# Altium schematic symbol library MainLibrary.SchLib: 86 symbols
Pins are listed as number, name and electrical type; pins without a type are passive.

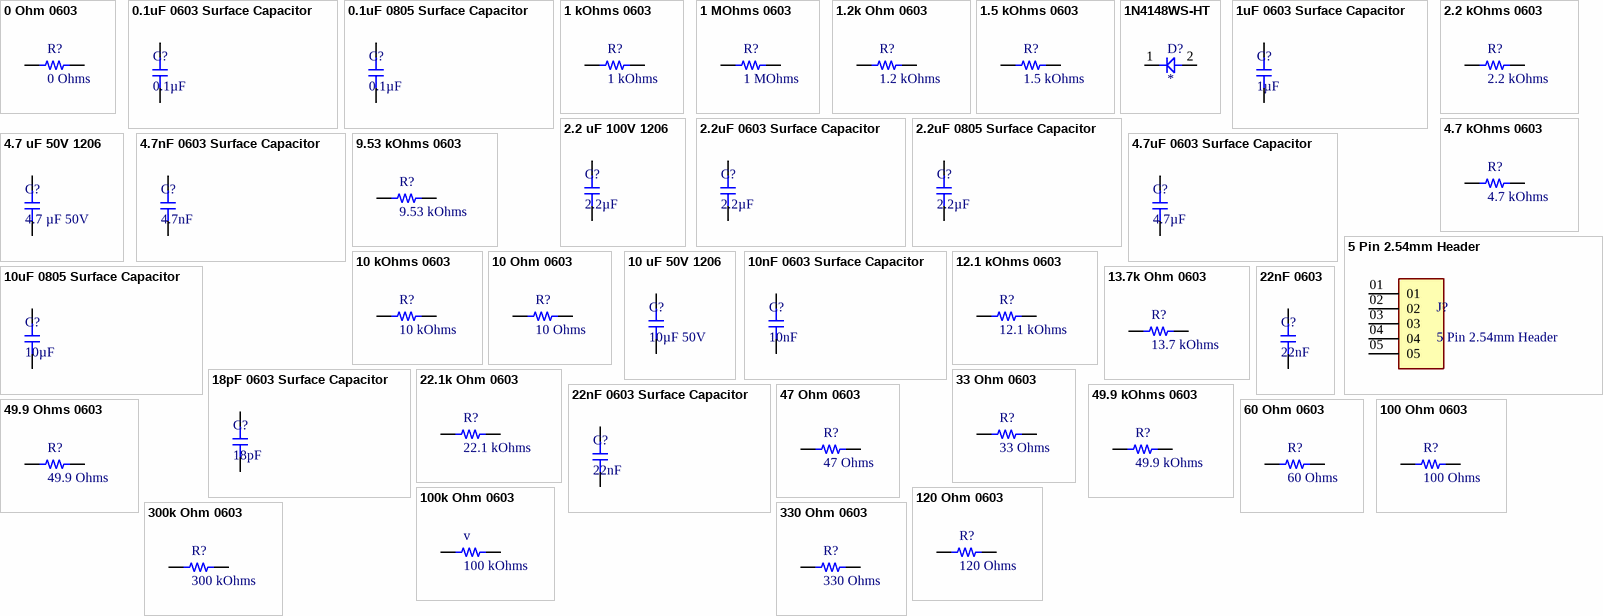
[diagram p0: symbols 0 Ohm 0603 to 330 Ohm 0603]

## 0 Ohm 0603
designator R?, comment 0 Ohms
0 Ohm 0603
footprint 0603_RES
pins: 1, 2

## 0.1uF 0603 Surface Capacitor
designator C?, comment 0.1µF
0.1uF 0603 Surface Capacitor
footprint 0603_Footprint
pins: 1, 2

## 0.1uF 0805 Surface Capacitor
designator C?, comment 0.1µF
0.1uF 0805 Surface Capacitor
footprint 0805
pins: 1, 2

## 1 kOhms 0603
designator R?, comment 1 kOhms
1 kOhms 0603
footprint 0603_RES
pins: 1, 2

## 1 MOhms 0603
designator R?, comment 1 MOhms
1 MOhms 0603
footprint 0603_RES
pins: 1, 2

## 1.2k Ohm 0603
designator R?, comment 1.2 kOhms
1.2k Ohm 0603
footprint 0603_RES
pins: 1, 2

## 1.5 kOhms 0603
designator R?, comment 1.5 kOhms
1.5 kOhms 0603
footprint 0603_RES
pins: 1, 2

## 1N4148WS-HT
designator D?
Diode; Manufacturer_Name: Vishay; Manufacturer_Part_Number: 1N4148WS-HT; Datasheet Link: https://www.vishay.com/docs/85751/1n4148ws.pdf; Height: 1.15mm; Mouser Part Number: 1N4148WS-HT; Mouser Price/Stock: https://www.mouser.co.uk/ProductDetail/Vishay-Semiconductors/1N4148WS-E3-18?qs=bTzheeSci6SMGZleBxLU%2Fg%3D%3D; Arrow Part Number: 1N4148WS-E3-18; Arrow Price/Stock: https://www.arrow.com/en/products/1n4148ws-e3-18/vishay?region=nac
footprint SOD2713X115N
pins: 1 K, 2 A

## 1uF 0603 Surface Capacitor
designator C?, comment 1µF
1uF 0603 Surface Capacitor
footprint 0603_Footprint
pins: 1, 2

## 2.2 kOhms 0603
designator R?, comment 2.2 kOhms
2.2 kOhms 0603
footprint 0603_RES
pins: 1, 2

## 2.2 uF 100V 1206
designator C?, comment 2.2µF
2.2 uF 100V 1206
footprint 1206_10uF
pins: 1, 2

## 2.2uF 0603 Surface Capacitor
designator C?, comment 2.2µF
2.2uF 0603 Surface Capacitor
footprint 0603_Footprint
pins: 1, 2

## 2.2uF 0805 Surface Capacitor
designator C?, comment 2.2µF
2.2uF 0805 Surface Capacitor
footprint 0805
pins: 1, 2

## 4.7 kOhms 0603
designator R?, comment 4.7 kOhms
4.7 kOhms 0603
footprint 0603_RES
pins: 1, 2

## 4.7 uF 50V 1206
designator C?, comment 4.7 µF 50V
10 uF 50V 1206
footprint 1206_10uF
pins: 1, 2

## 4.7nF 0603 Surface Capacitor
designator C?, comment 4.7nF
4.7nF 0603 Surface Capacitor
footprint 0603_Footprint
pins: 1, 2

## 4.7uF 0603 Surface Capacitor
designator C?, comment 4.7µF
4.7uF 0603 Surface Capacitor
footprint 0603_Footprint
pins: 1, 2

## 5 Pin 2.54mm Header
designator J?
MP: MTSW-105-09-G-S-480; Availability: Unavailable; Package: None; Value: *; Price: None
footprint 5PIN_254MM
pins: 01, 02, 03, 04, 05

## 9.53 kOhms 0603
designator R?, comment 9.53 kOhms
9.53 kOhms 0603
footprint 0603_RES
pins: 1, 2

## 10 kOhms 0603
designator R?, comment 10 kOhms
10 kOhms 0603
footprint 0603_RES
pins: 1, 2

## 10 Ohm 0603
designator R?, comment 10 Ohms
10 Ohms 0603
footprint 0603_RES
pins: 1, 2

## 10 uF 50V 1206
designator C?, comment 10µF 50V
10 uF 50V 1206
footprint 1206_10uF
pins: 1, 2

## 10nF 0603 Surface Capacitor
designator C?, comment 10nF
10nF 0603 Surface Capacitor
footprint 0603_Footprint
pins: 1, 2

## 10uF 0805 Surface Capacitor
designator C?, comment 10µF
10uF 0805 Surface Capacitor
footprint 0805
pins: 1, 2

## 12.1 kOhms 0603
designator R?, comment 12.1 kOhms
12.1 kOhms 0603
footprint 0603_RES
pins: 1, 2

## 13.7k Ohm 0603
designator R?, comment 13.7 kOhms
13.7 kOhms 0603
footprint 0603_RES
pins: 1, 2

## 18pF 0603 Surface Capacitor
designator C?, comment 18pF
18pF 0603 Surface Capacitor
footprint 0603_Footprint
pins: 1, 2

## 22.1k Ohm 0603
designator R?, comment 22.1 kOhms
22.1 kOhms 0603
footprint 0603_RES
pins: 1, 2

## 22nF 0603
designator C?, comment 22nF
22nF 0603 Surface Capacitor
footprint 0603_Footprint
pins: 1, 2

## 22nF 0603 Surface Capacitor
designator C?, comment 22nF
22nF 0603 Surface Capacitor
footprint 0603_Footprint
pins: 1, 2

## 33 Ohm 0603
designator R?, comment 33 Ohms
33 Ohm 0603
footprint 0603_RES
pins: 1, 2

## 47 Ohm 0603
designator R?, comment 47 Ohms
47 Ohm 0603
footprint 0603_RES
pins: 1, 2

## 49.9 kOhms 0603
designator R?, comment 49.9 kOhms
49.9 kOhms 0603
footprint 0603_RES
pins: 1, 2

## 49.9 Ohms 0603
designator R?, comment 49.9 Ohms
49.9 Ohms 0603
footprint 0603_RES
pins: 1, 2

## 60 Ohm 0603
designator R?, comment 60 Ohms
60 Ohm 0603
footprint 0603_RES
pins: 1, 2

## 100 Ohm 0603
designator R?, comment 100 Ohms
100 Ohm 0603
footprint 0603_RES
pins: 1, 2

## 100k Ohm 0603
designator v, comment 100 kOhms
100k Ohm 0603
footprint 0603_RES
pins: 1, 2

## 120 Ohm 0603
designator R?, comment 120 Ohms
120 Ohm 0603
footprint 0603_RES
pins: 1, 2

## 300k Ohm 0603
designator R?, comment 300 kOhms
300k Ohm 0603
footprint 0603_RES
pins: 1, 2

## 330 Ohm 0603
designator R?, comment 330 Ohms
330 Ohm 0603
footprint 0603_RES
pins: 1, 2

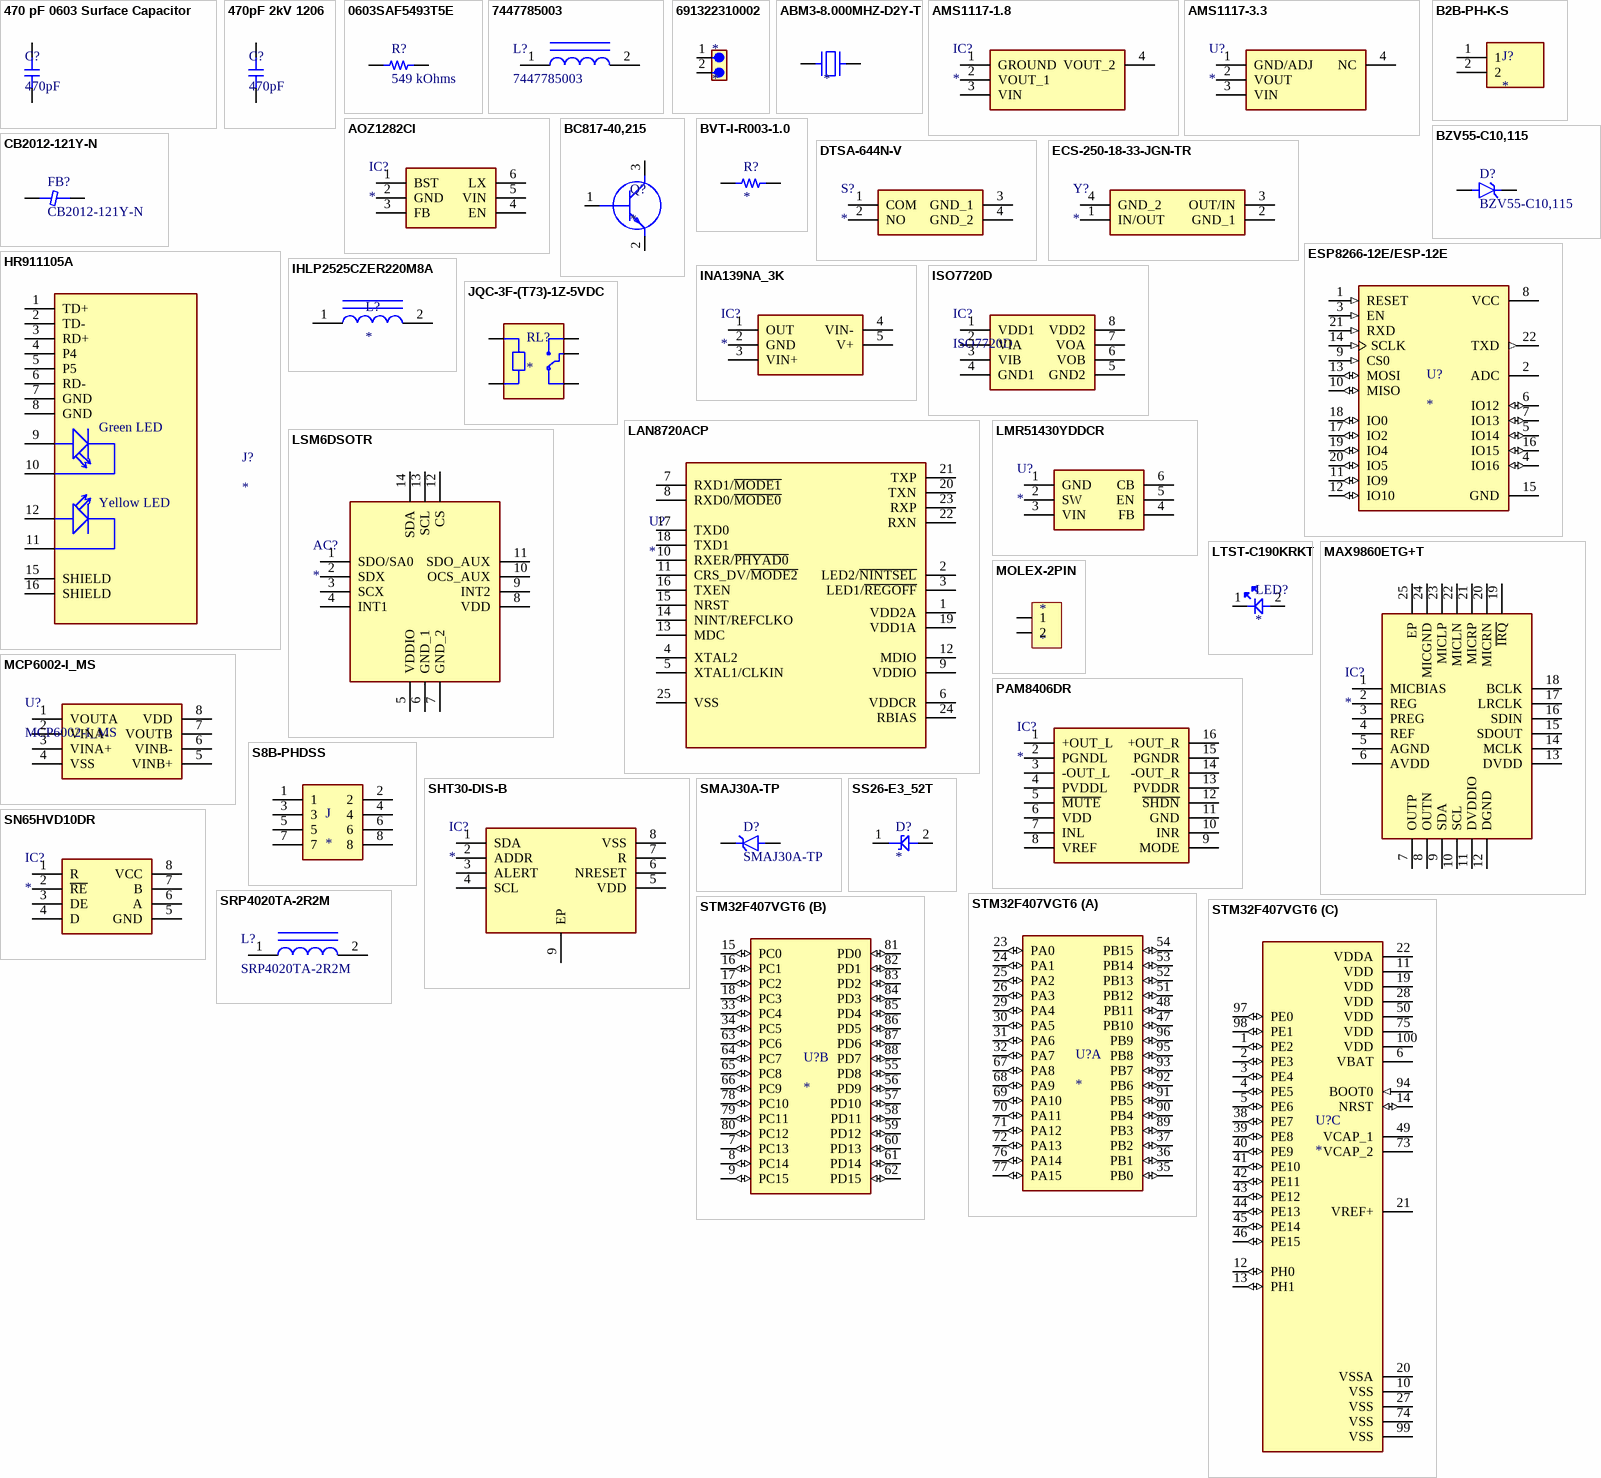
[diagram p1: symbols 470 pF 0603 Surface Capacitor to STM32F407VGT6]

## 470 pF 0603 Surface Capacitor
designator C?, comment 470pF
470 pF 0603 Surface Capacitor
footprint 0603_Footprint
pins: 1, 2

## 470pF 2kV 1206
designator C?, comment 470pF
470pF 2kV 1206
footprint 1206_10uF
pins: 1, 2

## 0603SAF5493T5E
designator R?, comment 549 kOhms
0805 549 kOhms 5% 1/8W-S 100PPM
footprint 0603_RES
pins: 1, 2

## 7447785003
designator L?
7447785003 2.8A Inductor; Manufacturer_Name: Vishay; Manufacturer_Part_Number: IHLP2525CZER220M8A; Datasheet Link: https://componentsearchengine.com/Datasheets/2/IHLP2525CZER220M8A.pdf; Height: 3mm; Mouser Part Number: 70-IHLP2525CZR220M8A; Mouser Price/Stock: https://www.mouser.co.uk/ProductDetail/Vishay-Dale/IHLP2525CZER220M8A?qs=ei%2FvZTf36ZyKyW60gc1ORQ%3D%3D; Arrow Part Number: IHLP2525CZER220M8A; Arrow Price/Stock: https://www.arrow.com/en/products/ihlp2525czer220m8a/vishay
footprint 7447785003
pins: 1, 2

## 691322310002
designator *
footprint WURH_3_81_691322310002
pins: 1, 2

## ABM3-8.000MHZ-D2Y-T
designator ?
Crystal or Oscillator; Manufacturer_Name: ABRACON; Manufacturer_Part_Number: ABM3-8.000MHZ-D2Y-T; Datasheet Link: https://abracon.com/Resonators/abm3.pdf; Height: 1.3mm; Mouser Part Number: 815-ABM3-8-D2Y-T; Mouser Price/Stock: https://www.mouser.co.uk/ProductDetail/ABRACON/ABM3-8.000MHZ-D2Y-T?qs=ihRgKfnEsN4giUXjc3yS1g%3D%3D; Arrow Part Number: ABM3-8.000MHZ-D2Y-T; Arrow Price/Stock: https://www.arrow.com/en/products/abm3-8.000mhz-d2y-t/abracon?region=europe
footprint ABM3
pins: 1, 2

## AMS1117-1.8
designator IC?
Integrated Circuit; Manufacturer_Name: Advanced Monolithic Systems; Manufacturer_Part_Number: AMS1117-1.8; Datasheet Link: https://datasheet.datasheetarchive.com/originals/distributors/Datasheets-1/DSA-6085.pdf; Height: 1.8mm
footprint SOT229P700X180-4N
pins: 1 GROUND, 2 VOUT_1, 3 VIN, 4 VOUT_2

## AMS1117-3.3
designator U?
Integrated Circuit; Manufacturer_Name: Advanced; Manufacturer_Part_Number: AMS1117-3.3; Datasheet Link: https://datasheet.datasheetarchive.com/originals/distributors/Datasheets-28/DSA-550594.pdf; Height: 1.8mm
footprint SOT229P700X180-4N
pins: 1 GND/ADJ, 2 VOUT, 3 VIN, 4 NC

## AOZ1282CI
designator IC?
Integrated Circuit; Manufacturer_Name: Alpha & Omega Semiconductors; Manufacturer_Part_Number: AOZ1282CI; Datasheet Link: http://www.aosmd.com/res/data_sheets/AOZ1282CI.pdf; Height: 1.25mm; Arrow Part Number: AOZ1282CI; Arrow Price/Stock: https://www.arrow.com/en/products/aoz1282ci/alpha-and-omega-semiconductor?region=nac
footprint SOT95P280X125-6N
pins: 1 BST, 2 GND, 3 FB, 4 EN, 5 VIN, 6 LX

## B2B-PH-K-S
designator J?
Connector Header Through Hole 2 position 0.079 (2.00mm); MF: JST Sales America Inc.; MP: B2B-PH-K-S; SnapEDA_Link: https://www.snapeda.com/parts/B2B-PH-K-S/JST/view-part/?ref=snap; Package: None; Value: *; Check_prices: https://www.snapeda.com/parts/B2B-PH-K-S/JST/view-part/?ref=eda
footprint JST_B2B-PH-K-S
pins: 1, 2

## BC817-40,215
designator Q?
Transistor BJT NPN; Manufacturer_Name: Nexperia; Manufacturer_Part_Number: BC817-40,215; Datasheet Link: https://assets.nexperia.com/documents/data-sheet/BC817_SER.pdf; Height: 1.1mm; Mouser Part Number: 771-BC817-40-T/R; Mouser Price/Stock: https://www.mouser.co.uk/ProductDetail/Nexperia/BC817-40215?qs=me8TqzrmIYU%252B245p8hOLaQ%3D%3D; Arrow Part Number: BC817-40,215; Arrow Price/Stock: https://www.arrow.com/en/products/bc817-40215/nexperia?region=nac
footprint BC81740215
pins: 1 B, 2 E, 3 C

## BVT-I-R003-1.0
designator R?
Resistor; Manufacturer_Name: Isabellenhutte; Manufacturer_Part_Number: BVT-I-R003-1.0; Datasheet Link: https://www.isabellenhuetteusa.com/wp-content/uploads/2020/05/BVT.pdf; Height: 0.38mm
footprint BVTIR00310
pins: 1, 2

## BZV55-C10,115
designator D?
500mW 10V Zener Diode; MP: BZV55C47_L1; Value: *; Availability: Unavailable; Package: None; Price: None
footprint DIOMELF3515N
pins: A, C K

## CB2012-121Y-N
designator FB?
footprint Inductor-0603
pins: 1, 2

## DTSA-644N-V
designator S?
Switch; Manufacturer_Name: Diptronics; Manufacturer_Part_Number: DTSA-644N-V; Datasheet Link: https://ru.mouser.com/ProductDetail/Diptronics/DTSA-644N-V?qs=gTYE2QTfZfTLDusQpQJufA%3D%3D; Height: 8mm; Mouser Part Number: 113-DTSA-644N-V; Mouser Price/Stock: https://www.mouser.co.uk/ProductDetail/Diptronics/DTSA-644N-V?qs=gTYE2QTfZfTLDusQpQJufA%3D%3D
footprint DTSA644NV
pins: 1 COM, 2 NO, 3 GND_1, 4 GND_2

## ECS-250-18-33-JGN-TR
designator Y?
Crystal or Oscillator; Manufacturer_Name: ECS; Manufacturer_Part_Number: ECS-250-18-33-JGN-TR; Datasheet Link: https://componentsearchengine.com/Datasheets/1/ECS-250-18-33-JGN-TR.pdf; Height: 0.8mm; Mouser Part Number: 520-250-18-33-JGNT; Mouser Price/Stock: https://www.mouser.co.uk/ProductDetail/ECS/ECS-250-18-33-JGN-TR?qs=AQlKX63v8RsjuKdEYMjMow%3D%3D; Arrow Part Number: ECS-250-18-33-JGN-TR; Arrow Price/Stock: https://www.arrow.com/en/products/ecs-250-18-33-jgn-tr/ecs-international?region=nac
footprint ECS2501833JGNTR
pins: 1 IN/OUT, 2 GND_1, 3 OUT/IN, 4 GND_2

## ESP8266-12E/ESP-12E
designator U?
This WiFi module has a 32-bit MCU micro and clock speeds supporting 80 MHz or 160 MHz. Supports the RTOS and integrated Wi-Fi MAC/BB/RF/PA/LNA, and has an on-board antenna.; MF: AI-Thinker; MP: ESP8266-12E/ESP-12E; Value: *; SnapEDA_Link: https://www.snapeda.com/parts/ESP8266-12E/ESP-12E/AI-Thinker/view-part/?ref=snap; Availability: Not in stock; Price: None; Package: None; Check_prices: https://www.snapeda.com/parts/ESP8266-12E/ESP-12E/AI-Thinker/view-part/?ref=eda
footprint XCVR_ESP8266-12E/ESP-12E
pins: 1 RESET (in), 2 ADC, 3 EN (in), 4 IO16 (io), 5 IO14 (io), 6 IO12 (io), 7 IO13 (io), 8 VCC (power), 9 CS0 (in), 10 MISO (io), 11 IO9 (io), 12 IO10 (io), 13 MOSI (io), 14 SCLK (in), 15 GND (power), 16 IO15 (io), 17 IO2 (io), 18 IO0 (io), 19 IO4 (io), 20 IO5 (io), 21 RXD (in), 22 TXD (out)

## HR911105A
designator J?
DIP RJ45 Connector;; MP: HR911105A; MF: hanrun; SnapEDA_Link: https://www.snapeda.com/parts/HR911105A/HanRun/view-part/?ref=snap; Package: None; Check_prices: https://www.snapeda.com/parts/HR911105A/HanRun/view-part/?ref=eda; Price: None; Value: *; Availability: Not in stock
footprint HANRUN_HR911105A
pins: 1 TD+, 2 TD-, 3 RD+, 4 P4, 5 P5, 6 RD-, 7 GND (power), 8 GND (power), 9 GA, 10 GC, 11 YC, 12 YA, 15 SHIELD, 16 SHIELD
text: Green LED; Yellow LED

## IHLP2525CZER220M8A
designator L?
Inductor; Manufacturer_Name: Vishay; Manufacturer_Part_Number: IHLP2525CZER220M8A; Datasheet Link: https://componentsearchengine.com/Datasheets/2/IHLP2525CZER220M8A.pdf; Height: 3mm; Mouser Part Number: 70-IHLP2525CZR220M8A; Mouser Price/Stock: https://www.mouser.co.uk/ProductDetail/Vishay-Dale/IHLP2525CZER220M8A?qs=ei%2FvZTf36ZyKyW60gc1ORQ%3D%3D; Arrow Part Number: IHLP2525CZER220M8A; Arrow Price/Stock: https://www.arrow.com/en/products/ihlp2525czer220m8a/vishay
footprint INDPM6965X300N
pins: 1, 2

## INA139NA_3K
designator IC?
Integrated Circuit; Manufacturer_Name: Texas Instruments; Manufacturer_Part_Number: INA139NA/3K; Datasheet Link: http://www.ti.com/lit/gpn/ina139; Height: 1.45mm; Mouser Part Number: 595-INA139NA/3K; Mouser Price/Stock: https://www.mouser.co.uk/ProductDetail/Texas-Instruments/INA139NA-3K?qs=VBduBm9rCJS5yg1Xiaw5Dw%3D%3D; Arrow Part Number: INA139NA/3K; Arrow Price/Stock: https://www.arrow.com/en/products/ina139na3k/texas-instruments?region=nac
footprint SOT95P280X145-5N
pins: 1 OUT, 2 GND, 3 VIN+, 4 VIN-, 5 V+

## ISO7720D
designator IC?
ISO7720D Digital Isolator; Manufacturer_Name: Analog Devices; Manufacturer_Part_Number: ADUM1200ARZ; Datasheet Link: http://uk.rs-online.com/web/p/products/4966825; Height: 1.75mm; Mouser Part Number: 584-ADUM1200ARZ; Mouser Price/Stock: https://www.mouser.co.uk/ProductDetail/Analog-Devices/ADUM1200ARZ?qs=WIvQP4zGanjrsLKTNS%2FKdg%3D%3D; Arrow Part Number: ADUM1200ARZ; Arrow Price/Stock: https://www.arrow.com/en/products/adum1200arz/analog-devices?region=europe
footprint SOIC127P600X175-8N
pins: 1 VDD1, 2 VIA, 3 VIB, 4 GND1, 5 GND2, 6 VOB, 7 VOA, 8 VDD2

## JQC-3F-(T73)-1Z-5VDC
designator RL?
5V Trig Relay; MF: Songle Relay; MP: SRD-05VDC-SL-C; Check_prices: https://www.snapeda.com/parts/SRD-05VDC-SL-C/Songle+Relay/view-part/?ref=eda; Value: *; Availability: Not in stock; Price: None; Package: NON STANDARD-5 Songle Relay; SnapEDA_Link: https://www.snapeda.com/parts/SRD-05VDC-SL-C/Songle+Relay/view-part/?ref=snap
footprint RELAY-5VDC
pins: A1, A2, COM, NC, NO

## LAN8720ACP
designator U?
Ethernet Transreceiver; Manufacturer_Name: Microchip; Manufacturer_Part_Number: LAN8720ACP; Datasheet Link: http://ww1.microchip.com/downloads/en/DeviceDoc/8720a.pdf; Height: 1mm
footprint QFN50P400X400X100-25N-D
pins: 1 VDD2A, 2 LED2/~{NINTSEL}, 3 LED1/~{REGOFF}, 4 XTAL2, 5 XTAL1/CLKIN, 6 VDDCR, 7 RXD1/~{MODE1}, 8 RXD0/~{MODE0}, 9 VDDIO, 10 RXER/~{PHYAD0}, 11 CRS_DV/~{MODE2}, 12 MDIO, 13 MDC, 14 NINT/REFCLKO, 15 NRST, 16 TXEN, 17 TXD0, 18 TXD1, 19 VDD1A, 20 TXN, 21 TXP, 22 RXN, 23 RXP, 24 RBIAS, 25 VSS

## LMR51430YDDCR
designator U?
Integrated Circuit; Manufacturer_Name: Texas Instruments; Manufacturer_Part_Number: LMR51430YDDCR; Datasheet Link: https://www.ti.com/lit/ds/symlink/lmr51430.pdf?ts=1657817980313&ref_url=https%253A%252F%252Fwww.ti.com%252Fproduct%252FLMR51430%253FkeyMatch%253DLMR51430%2526tisearch%253Dsearch-everything%2526usecase%253DGPN; Height: 1.1mm; Mouser Part Number: 595-LMR51430YDDCR; Mouser Price/Stock: https://www.mouser.co.uk/ProductDetail/Texas-Instruments/LMR51430YDDCR?qs=vvQtp7zwQdMdLcsY5sFiMg%3D%3D; Arrow Part Number: LMR51430YDDCR; Arrow Price/Stock: https://www.arrow.com/en/products/lmr51430yddcr/texas-instruments?region=nac
footprint SOT95P280X110-6N
pins: 1 GND, 2 SW, 3 VIN, 4 FB, 5 EN, 6 CB

## LSM6DSOTR
designator AC?
Accelerometer; Manufacturer_Name: STMicroelectronics; Manufacturer_Part_Number: LSM6DSOTR; Datasheet Link: https://www.st.com/resource/en/datasheet/lsm6dso.pdf; Mouser Part Number: 511-LSM6DSOTR; Mouser Price/Stock: https://www.mouser.co.uk/ProductDetail/STMicroelectronics/LSM6DSOTR?qs=lc2O%252BfHJPVbD197C5c7oNw%3D%3D; Arrow Part Number: LSM6DSOTR; Arrow Price/Stock: https://www.arrow.com/en/products/lsm6dsotr/stmicroelectronics?region=nac
footprint LGA-14(2.5X3X0.86)
pins: 1 SDO/SA0, 2 SDX, 3 SCX, 4 INT1, 5 VDDIO, 6 GND_1, 7 GND_2, 8 VDD, 9 INT2, 10 OCS_AUX, 11 SDO_AUX, 12 CS, 13 SCL, 14 SDA

## LTST-C190KRKT
designator LED?
LED; Manufacturer_Name: Lite-On; Manufacturer_Part_Number: LTST-C190KRKT; Datasheet Link: https://componentsearchengine.com/Datasheets/1/LTST-C190KRKT.pdf; Height: 0.8mm; Mouser Part Number: 859-LTST-C190KRKT; Mouser Price/Stock: https://www.mouser.co.uk/ProductDetail/Lite-On/LTST-C190KRKT?qs=kAD5fFa1n5VY3YYNWPC1Fg%3D%3D; Arrow Part Number: LTST-C190KRKT; Arrow Price/Stock: https://www.arrow.com/en/products/ltst-c190krkt/lite-on-technology?region=europe
footprint LEDC1608X80N
pins: 1 K, 2 A

## MAX9860ETG+T
designator IC?
Integrated Circuit; Manufacturer_Name: Analog Devices; Manufacturer_Part_Number: MAX9860ETG+T; Datasheet Link: https://datasheets.maximintegrated.com/en/ds/MAX9860.pdf; Height: 0.8mm; Mouser Part Number: 700-MAX9860ETGT; Mouser Price/Stock: https://www.mouser.co.uk/ProductDetail/Analog-Devices-Maxim-Integrated/MAX9860ETG%2bT?qs=LHmEVA8xxfYGy2Ln2j7A4Q%3D%3D; Arrow Part Number: MAX9860ETG+T; Arrow Price/Stock: https://www.arrow.com/en/products/max9860etgt/maxim-integrated?region=nac
footprint QFN50P400X400X80-25N
pins: 1 MICBIAS, 2 REG, 3 PREG, 4 REF, 5 AGND, 6 AVDD, 7 OUTP, 8 OUTN, 9 SDA, 10 SCL, 11 DVDDIO, 12 DGND, 13 DVDD, 14 MCLK, 15 SDOUT, 16 SDIN, 17 LRCLK, 18 BCLK, 19 ~{IRQ}, 20 MICRN, 21 MICRP, 22 MICLN, 23 MICLP, 24 MICGND, 25 EP

## MCP6002-I_MS
designator U?
Rail to Rail OpAmp; Manufacturer_Name: Microchip; Manufacturer_Part_Number: MCP6002-I/MS; Datasheet Link: https://datasheet.datasheetarchive.com/originals/distributors/Datasheets-DGA24/1612149.pdf; Height: 1.1mm; Mouser Part Number: 579-MCP6002-I/MS; Mouser Price/Stock: https://www.mouser.co.uk/ProductDetail/Microchip-Technology/MCP6002-I-MS?qs=cUeqqamUra%2FBe1qC6EG%2FuA%3D%3D; Arrow Part Number: MCP6002-I/MS; Arrow Price/Stock: https://www.arrow.com/en/products/mcp6002-ims/microchip-technology?region=europe
footprint SOP65P490X110-8N
pins: 1 VOUTA, 2 VINA-, 3 VINA+, 4 VSS, 5 VINB+, 6 VINB-, 7 VOUTB, 8 VDD

## MOLEX-2PIN
designator *
footprint MOLEX2MM2PIN
pins: 1, 2

## PAM8406DR
designator IC?
Integrated Circuit; Manufacturer_Name: Diodes Incorporated; Manufacturer_Part_Number: PAM8406DR; Datasheet Link: https://www.diodes.com//assets/Datasheets/PAM8406.pdf; Height: 1.26mm; Mouser Part Number: 621-PAM8406DR; Mouser Price/Stock: https://www.mouser.co.uk/ProductDetail/Diodes-Incorporated/PAM8406DR?qs=%252BSlWJf1dfkLK5VNh%252Bez%2F0Q%3D%3D; Arrow Part Number: PAM8406DR; Arrow Price/Stock: https://www.arrow.com/en/products/pam8406dr/diodes-incorporated?region=asia
footprint SOIC127P600X126-16N
pins: 1 +OUT_L, 2 PGNDL, 3 -OUT_L, 4 PVDDL, 5 ~{MUTE}, 6 VDD, 7 INL, 8 VREF, 9 MODE, 10 INR, 11 GND, 12 ~{SHDN}, 13 PVDDR, 14 -OUT_R, 15 PGNDR, 16 +OUT_R

## S8B-PHDSS
designator J
Connector Header Through Hole, Right Angle 8 position 0.079 _2.00mm_; MF: JST Sales; MP: S8B-PHDSS; SnapEDA_Link: https://www.snapeda.com/parts/S8B-PHDSS/JST%20Sales%20America%20Inc./view-part/761599/?ref=snap; Value: *; Price: None; Availability: Unavailable; Package: None
footprint JST_S8B-PHDSS
pins: 1, 2, 3, 4, 5, 6, 7, 8

## SHT30-DIS-B
designator IC?
Integrated Circuit; Manufacturer_Name: Sensirion; Manufacturer_Part_Number: SHT30-DIS-B; Datasheet Link: https://datasheet.datasheetarchive.com/originals/distributors/DKDS-37/728933.pdf; Height: 1mm; Mouser Part Number: 403-SHT30-DIS-B; Mouser Price/Stock: https://www.mouser.com/Search/Refine.aspx?Keyword=403-SHT30-DIS-B
footprint SON50P250X250X100-9N-D
pins: 1 SDA, 2 ADDR, 3 ALERT, 4 SCL, 5 VDD, 6 NRESET, 7 R, 8 VSS, 9 EP

## SMAJ30A-TP
designator D?
TVS Diode (Uni-directional); Manufacturer_Name: MCC; Datasheet Link: https://www.mccsemi.com/pdf/Products/SMAJ5.0A-SMAJ440CA(SMA).pdf; Height: 2.3mm; Manufacturer_Part_Number: SMAJ30A-TP; Mouser Part Number: 833-SMAJ30A-TP; Mouser Price/Stock: https://www.mouser.co.uk/ProductDetail/Micro-Commercial-Components-MCC/SMAJ30A-TP?qs=ZNK0BnemlqGyA6NYIecqnw%3D%3D; Arrow Part Number: SMAJ30A-TP; Arrow Price/Stock: https://www.arrow.com/en/products/smaj30a-tp/micro-commercial-components
footprint DIOM5226X230N
pins: 1, 2

## SN65HVD10DR
designator IC?
Integrated Circuit; Manufacturer_Name: Texas Instruments; Manufacturer_Part_Number: SN65HVD10DR; Datasheet Link: http://www.ti.com/lit/gpn/sn65hvd10; Height: 1.75mm; Mouser Part Number: 595-SN65HVD10DR; Mouser Price/Stock: https://www.mouser.co.uk/ProductDetail/Texas-Instruments/SN65HVD10DR?qs=QViXGNcIEAviyhAwS0yoXQ%3D%3D; Arrow Part Number: SN65HVD10DR; Arrow Price/Stock: https://www.arrow.com/en/products/sn65hvd10dr/texas-instruments?region=nac
footprint SOIC127P600X175-8N
pins: 1 R, 2 ~{RE}, 3 DE, 4 D, 5 GND, 6 A, 7 B, 8 VCC

## SRP4020TA-2R2M
designator L?
SRP4020TA-2R2M 4A Inductor; Manufacturer_Name: Vishay; Manufacturer_Part_Number: IHLP2525CZER220M8A; Datasheet Link: https://componentsearchengine.com/Datasheets/2/IHLP2525CZER220M8A.pdf; Height: 3mm; Mouser Part Number: 70-IHLP2525CZR220M8A; Mouser Price/Stock: https://www.mouser.co.uk/ProductDetail/Vishay-Dale/IHLP2525CZER220M8A?qs=ei%2FvZTf36ZyKyW60gc1ORQ%3D%3D; Arrow Part Number: IHLP2525CZER220M8A; Arrow Price/Stock: https://www.arrow.com/en/products/ihlp2525czer220m8a/vishay
footprint INDC4441X200N
pins: 1, 2

## SS26-E3_52T
designator D?
Schottky Diode; Manufacturer_Name: Vishay; Manufacturer_Part_Number: SS26-E3/52T; Datasheet Link: https://componentsearchengine.com/Datasheets/2/SS26-E3_52T.pdf; Height: 2.44mm; Mouser Part Number: 625-SS26-E3; Mouser Price/Stock: https://www.mouser.co.uk/ProductDetail/Vishay-General-Semiconductor/SS26-E3-52T?qs=x2jpVgRnAtNToatHaCRUvw%3D%3D; Arrow Part Number: SS26-E3/52T; Arrow Price/Stock: https://www.arrow.com/en/products/ss26-e352t/vishay?region=europe
footprint DIOM5436X244N
pins: 1 K, 2 A

## STM32F407VGT6
designator U?
STM32 Series 32-bit 1 MB Flash 192 kB RAM ARM Based Microcontroller - LQFP-100; MP: STM32F407VGT6; Price: None; Value: *; Package: None; Availability: Unavailable
footprint QFP50P1600X1600X160-100N
part A pins: 23 PA0 (io), 24 PA1 (io), 25 PA2 (io), 26 PA3 (io), 29 PA4 (io), 30 PA5 (io), 31 PA6 (io), 32 PA7 (io), 35 PB0 (io), 36 PB1 (io), 37 PB2 (io), 47 PB10 (io), 48 PB11 (io), 51 PB12 (io), 52 PB13 (io), 53 PB14 (io), 54 PB15 (io), 67 PA8 (io), 68 PA9 (io), 69 PA10 (io), 70 PA11 (io), 71 PA12 (io), 72 PA13 (io), 76 PA14 (io), 77 PA15 (io), 89 PB3 (io), 90 PB4 (io), 91 PB5 (io), 92 PB6 (io), 93 PB7 (io), 95 PB8 (io), 96 PB9 (io)
part B pins: 7 PC13 (io), 8 PC14 (io), 9 PC15 (io), 15 PC0 (io), 16 PC1 (io), 17 PC2 (io), 18 PC3 (io), 33 PC4 (io), 34 PC5 (io), 55 PD8 (io), 56 PD9 (io), 57 PD10 (io), 58 PD11 (io), 59 PD12 (io), 60 PD13 (io), 61 PD14 (io), 62 PD15 (io), 63 PC6 (io), 64 PC7 (io), 65 PC8 (io), 66 PC9 (io), 78 PC10 (io), 79 PC11 (io), 80 PC12 (io), 81 PD0 (io), 82 PD1 (io), 83 PD2 (io), 84 PD3 (io), 85 PD4 (io), 86 PD5 (io), 87 PD6 (io), 88 PD7 (io)
part C pins: 1 PE2 (io), 2 PE3 (io), 3 PE4 (io), 4 PE5 (io), 5 PE6 (io), 6 VBAT (power), 10 VSS (power), 11 VDD (power), 12 PH0 (io), 13 PH1 (io), 14 NRST (io), 19 VDD (power), 20 VSSA (power), 21 VREF+ (power), 22 VDDA (power), 27 VSS (power), 28 VDD (power), 38 PE7 (io), 39 PE8 (io), 40 PE9 (io), 41 PE10 (io), 42 PE11 (io), 43 PE12 (io), 44 PE13 (io), 45 PE14 (io), 46 PE15 (io), 49 VCAP_1, 50 VDD (power), 73 VCAP_2, 74 VSS (power), 75 VDD (power), 94 BOOT0 (in), 97 PE0 (io), 98 PE1 (io), 99 VSS (power), 100 VDD (power)

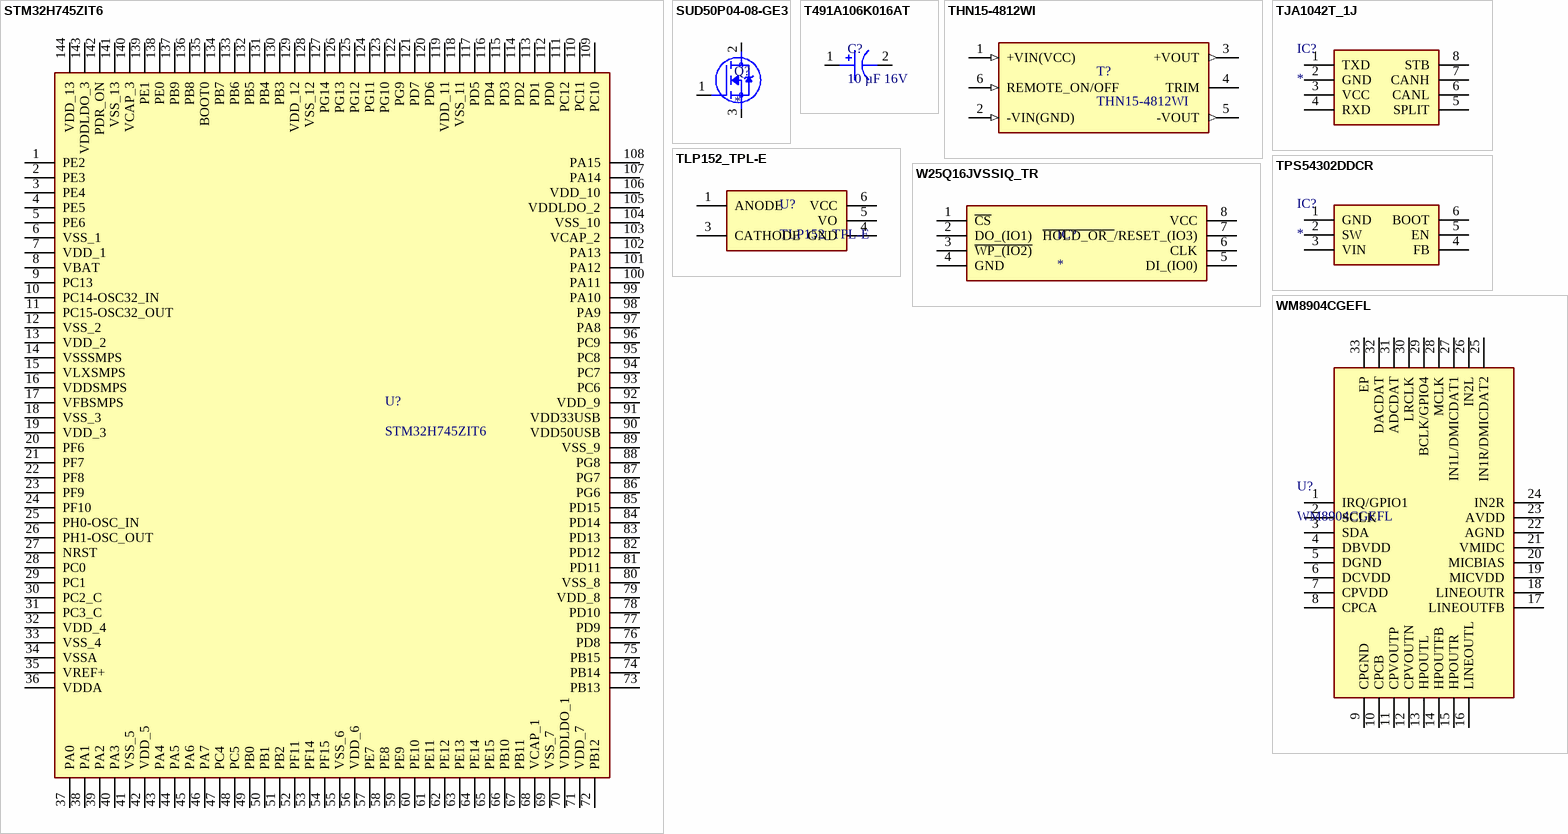
[diagram p2: symbols STM32H745ZIT6 to WM8904CGEFL]

## STM32H745ZIT6
designator U?
footprint QFP50P2200X2200X160-144N
pins: 1 PE2, 2 PE3, 3 PE4, 4 PE5, 5 PE6, 6 VSS_1, 7 VDD_1, 8 VBAT, 9 PC13, 10 PC14-OSC32_IN, 11 PC15-OSC32_OUT, 12 VSS_2, 13 VDD_2, 14 VSSSMPS, 15 VLXSMPS, 16 VDDSMPS, 17 VFBSMPS, 18 VSS_3, 19 VDD_3, 20 PF6, 21 PF7, 22 PF8, 23 PF9, 24 PF10, 25 PH0-OSC_IN, 26 PH1-OSC_OUT, 27 NRST, 28 PC0, 29 PC1, 30 PC2_C, 31 PC3_C, 32 VDD_4, 33 VSS_4, 34 VSSA, 35 VREF+, 36 VDDA, 37 PA0, 38 PA1, 39 PA2, 40 PA3, 41 VSS_5, 42 VDD_5, 43 PA4, 44 PA5, 45 PA6, 46 PA7, 47 PC4, 48 PC5, 49 PB0, 50 PB1, 51 PB2, 52 PF11, 53 PF14, 54 PF15, 55 VSS_6, 56 VDD_6, 57 PE7, 58 PE8, 59 PE9, 60 PE10, 61 PE11, 62 PE12, 63 PE13, 64 PE14, 65 PE15, 66 PB10, 67 PB11, 68 VCAP_1, 69 VSS_7, 70 VDDLDO_1, 71 VDD_7, 72 PB12, 73 PB13, 74 PB14, 75 PB15, 76 PD8, 77 PD9, 78 PD10, 79 VDD_8, 80 VSS_8, 81 PD11, 82 PD12, 83 PD13, 84 PD14, 85 PD15, 86 PG6, 87 PG7, 88 PG8, 89 VSS_9, 90 VDD50USB, 91 VDD33USB, 92 VDD_9, 93 PC6, 94 PC7, 95 PC8, 96 PC9, 97 PA8, 98 PA9, 99 PA10, 100 PA11, 101 PA12, 102 PA13, 103 VCAP_2, 104 VSS_10, 105 VDDLDO_2, 106 VDD_10, 107 PA14, 108 PA15, 109 PC10, 110 PC11, 111 PC12, 112 PD0, 113 PD1, 114 PD2, 115 PD3, 116 PD4, 117 PD5, 118 VSS_11, 119 VDD_11, 120 PD6, 121 PD7, 122 PG9, 123 PG10, 124 PG11, 125 PG12, 126 PG13, 127 PG14, 128 VSS_12, 129 VDD_12, 130 PB3, 131 PB4, 132 PB5, 133 PB6, 134 PB7, 135 BOOT0, 136 PB8, 137 PB9, 138 PE0, 139 PE1, 140 VCAP_3, 141 VSS_13, 142 PDR_ON, 143 VDDLDO_3, 144 VDD_13

## SUD50P04-08-GE3
designator Q?
MOSFET (P-Channel); Manufacturer_Name: Vishay; Manufacturer_Part_Number: SUD50P04-08-GE3; Datasheet Link: https://www.vishay.com/docs/65594/sud50p04-08.pdf; Height: 2.38mm; Mouser Part Number: 781-SUD50P04-08-GE3; Mouser Price/Stock: https://www.mouser.co.uk/ProductDetail/Vishay-Semiconductors/SUD50P04-08-GE3?qs=WX95TUc1y56BTDQkv3VCeQ%3D%3D; Arrow Part Number: SUD50P04-08-GE3; Arrow Price/Stock: https://www.arrow.com/en/products/sud50p04-08-ge3/vishay?region=europe
footprint TO-252
pins: 1 G, 2 D, 3 S

## T491A106K016AT
designator C?, comment 10 µF 16V
Capacitor Polarised Tantalum; Manufacturer_Name: KEMET; Manufacturer_Part_Number: T491A106K016AT; Datasheet Link: https://content.kemet.com/datasheets/KEM_T2005_T491.pdf; Height: 1.8mm; Mouser Part Number: 80-T491A106K016; Mouser Price/Stock: https://www.mouser.co.uk/ProductDetail/KEMET/T491A106K016AT?qs=hg06hKRDeG1uMktjT%252BG2VQ%3D%3D; Arrow Part Number: T491A106K016AT; Arrow Price/Stock: https://www.arrow.com/en/products/t491a106k016at/kemet-corporation?region=europe
footprint T491A
pins: 1 +, 2 -

## THN15-4812WI
designator T?
15W DC/DC Converter TRACO POWER
footprint CONV_THN_15-4812WI
pins: 1 +VIN(VCC) (in), 2 -VIN(GND) (in), 3 +VOUT (out), 4 TRIM, 5 -VOUT (out), 6 REMOTE_ON/OFF (in)

## TJA1042T_1J
designator IC?
Integrated Circuit; Manufacturer_Name: NXP; Manufacturer_Part_Number: TJA1042T/1J; Datasheet Link: http://www.nxp.com/docs/en/data-sheet/TJA1042.pdf; Height: 1.75mm; Mouser Part Number: 771-TJA1042T/1J; Mouser Price/Stock: https://www.mouser.co.uk/ProductDetail/NXP-Semiconductors/TJA1042T-1J?qs=gNSudQoqUYB5nZpx0evBtw%3D%3D; Arrow Part Number: TJA1042T/1J; Arrow Price/Stock: https://www.arrow.com/en/products/tja1042t1j/nxp-semiconductors?region=nac
footprint SOIC127P600X175-8N
pins: 1 TXD, 2 GND, 3 VCC, 4 RXD, 5 SPLIT, 6 CANL, 7 CANH, 8 STB

## TLP152_TPL-E
designator U?
2.5A IGBT-Mosfet Gate Driver; Manufacturer_Name: Toshiba; Manufacturer_Part_Number: TLP152(TPL,E; Datasheet Link: http://toshiba.semicon-storage.com/info/docget.jsp?did=13615&prodName=TLP152; Height: 2.3mm; Mouser Part Number: 757-TLP152TPLE; Mouser Price/Stock: https://www.mouser.co.uk/ProductDetail/Toshiba/TLP152TPLE?qs=WTEd434rUSUZa6a75d6uQg%3D%3D; Arrow Part Number: TLP152(TPL,E; Arrow Price/Stock: https://www.arrow.com/en/products/tlp152-tple/toshiba?region=nac
footprint TLP152
pins: 1 ANODE, 3 CATHODE, 4 GND, 5 VO, 6 VCC

## TPS54302DDCR
designator IC?
Integrated Circuit; Manufacturer_Name: Texas Instruments; Manufacturer_Part_Number: TPS54302DDCR; Datasheet Link: http://www.ti.com/general/docs/suppproductinfo.tsp?distId=10&gotoUrl=http%3A%2F%2Fwww.ti.com%2Flit%2Fgpn%2Ftps54302; Height: 1.1mm; Mouser Part Number: 595-TPS54302DDCR; Mouser Price/Stock: https://www.mouser.co.uk/ProductDetail/Texas-Instruments/TPS54302DDCR?qs=zEmsApcVOkUXM7UP0GSO2g%3D%3D; Arrow Part Number: TPS54302DDCR; Arrow Price/Stock: https://www.arrow.com/en/products/tps54302ddcr/texas-instruments?region=nac
footprint SOT95P280X110-6N
pins: 1 GND, 2 SW, 3 VIN, 4 FB, 5 EN, 6 BOOT

## W25Q16JVSSIQ_TR
designator IC?
Integrated Circuit; Manufacturer_Name: Winbond; Manufacturer_Part_Number: W25Q16JVSSIQ TR; Description: FLASH - NOR Memory IC 16Mbit SPI - Quad I/O 133 MHz 8-SOIC; Datasheet Link: https://www.winbond.com/resource-files/w25q16jv%20spi%20revg%2003222018%20plus.pdf; Height: 2.16mm; Mouser Part Number: 454-W25Q16JVSSIQTR; Mouser Price/Stock: https://www.mouser.co.uk/ProductDetail/Winbond/W25Q16JVSSIQ-TR?qs=qSfuJ%252Bfl%2Fd6oXlsNm7Svfg%3D%3D; Arrow Part Number: W25Q16JVSSIQ TR; Arrow Price/Stock: https://www.arrow.com/en/products/w25q16jvssiqtr/winbond-electronics?region=nac
footprint SOIC127P790X216-8N
pins: 1 ~{CS}, 2 DO_(IO1), 3 ~{WP_(IO2)}, 4 GND, 5 DI_(IO0), 6 CLK, 7 ~{HOLD_OR_}/RESET_(IO3), 8 VCC

## WM8904CGEFL
designator U?
Codec Circuit; Manufacturer_Name: Cirrus Logic; Manufacturer_Part_Number: WM8904CGEFL/V; Datasheet Link: https://statics.cirrus.com/pubs/proDatasheet/WM8904_Rev4.0.pdf; Height: 0.8mm; Mouser Part Number: 238-WM8904CGEFL/V; Mouser Price/Stock: https://www.mouser.co.uk/ProductDetail/Cirrus-Logic/WM8904CGEFL-V?qs=G8wrXCBxhFucvRVD%2FY2Zqw%3D%3D
footprint QFN40P400X400X80-33N
pins: 1 IRQ/GPIO1, 2 SCLK, 3 SDA, 4 DBVDD, 5 DGND, 6 DCVDD, 7 CPVDD, 8 CPCA, 9 CPGND, 10 CPCB, 11 CPVOUTP, 12 CPVOUTN, 13 HPOUTL, 14 HPOUTFB, 15 HPOUTR, 16 LINEOUTL, 17 LINEOUTFB, 18 LINEOUTR, 19 MICVDD, 20 MICBIAS, 21 VMIDC, 22 AGND, 23 AVDD, 24 IN2R, 25 IN1R/DMICDAT2, 26 IN2L, 27 IN1L/DMICDAT1, 28 MCLK, 29 BCLK/GPIO4, 30 LRCLK, 31 ADCDAT, 32 DACDAT, 33 EP